# Altium schematic symbol library LM555CN.SchLib: 1 symbol
Pins are listed as number, name and electrical type; pins without a type are passive.

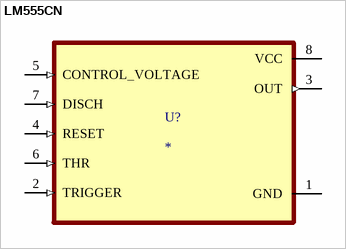
[diagram p0: symbol LM555CN]

## LM555CN
designator U?
MP: LM555CN/NOPB; MF: {'manufacturer': u'ON Semiconductor'}; Availability: Unavailable; Value: *; Price: None; Package: None
footprint DIP794W45P254L959H508Q8
pins: 1 GND (power), 2 TRIGGER (in), 3 OUT (out), 4 RESET (in), 5 CONTROL_VOLTAGE (in), 6 THR (in), 7 DISCH (in), 8 VCC (power)